# EAGLE library part LARA-R2 (library Modules)
u-blox LTE Cat 1 module
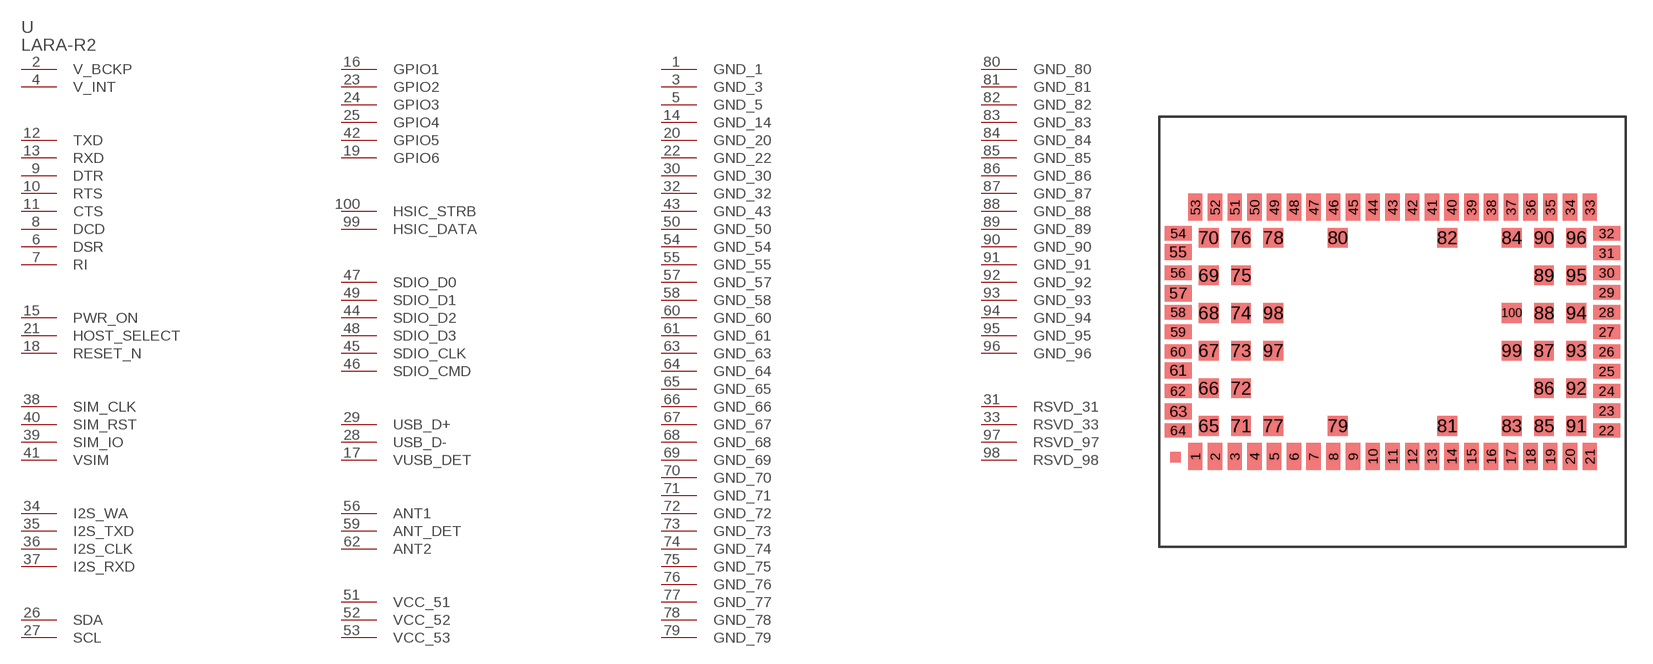
[diagram p2: symbol with the pads of LARA-R2; footprint LARA-R2]

Designator prefix U

## LARA-R220  [LARA-R2]
1  GND_1  pas
2  V_BCKP
3  GND_3  pas
4  V_INT
5  GND_5  pas
6  DSR
7  RI
8  DCD
9  DTR
10  RTS
11  CTS
12  TXD
13  RXD
14  GND_14  pas
15  PWR_ON
16  GPIO1
17  VUSB_DET
18  RESET_N
19  GPIO6
20  GND_20  pas
21  HOST_SELECT
22  GND_22  pas
23  GPIO2
24  GPIO3
25  GPIO4
26  SDA
27  SCL
28  USB_D-
29  USB_D+
30  GND_30  pas
31  RSVD_31  nc
32  GND_32  pas
33  RSVD_33  nc
34  I2S_WA
35  I2S_TXD
36  I2S_CLK
37  I2S_RXD
38  SIM_CLK
39  SIM_IO
40  SIM_RST
41  VSIM  pas
42  GPIO5
43  GND_43  pas
44  SDIO_D2  pas
45  SDIO_CLK  pas
46  SDIO_CMD  pas
47  SDIO_D0  pas
48  SDIO_D3  pas
49  SDIO_D1  pas
50  GND_50  pas
51  VCC_51  pas
52  VCC_52  pas
53  VCC_53  pas
54  GND_54  pas
55  GND_55  pas
56  ANT1
57  GND_57  pas
58  GND_58  pas
59  ANT_DET
60  GND_60  pas
61  GND_61  pas
62  ANT2
63  GND_63  pas
64  GND_64  pas
65  GND_65  pas
66  GND_66  pas
67  GND_67  pas
68  GND_68  pas
69  GND_69  pas
70  GND_70  pas
71  GND_71  pas
72  GND_72  pas
73  GND_73  pas
74  GND_74  pas
75  GND_75  pas
76  GND_76  pas
77  GND_77  pas
78  GND_78  pas
79  GND_79  pas
80  GND_80  pas
81  GND_81  pas
82  GND_82  pas
83  GND_83  pas
84  GND_84  pas
85  GND_85  pas
86  GND_86  pas
87  GND_87  pas
88  GND_88  pas
89  GND_89  pas
90  GND_90  pas
91  GND_91  pas
92  GND_92  pas
93  GND_93  pas
94  GND_94  pas
95  GND_95  pas
96  GND_96  pas
97  RSVD_97  nc
98  RSVD_98  nc
99  HSIC_DATA
100  HSIC_STRB

## Footprint LARA-R2 (pad centres in mm)
LARA-R2 series Size-optimized LTE Cat 1 modules
smd 0.8 x 1.5: 1 -11,-6.95; 2 -9.9,-6.95; 3 -8.8,-6.95; 4 -7.7,-6.95; 5 -6.6,-6.95; 6 -5.5,-6.95; 7 -4.4,-6.95; 8 -3.3,-6.95; 9 -2.2,-6.95; 10 -1.1,-6.95; 11 0,-6.95; 12 1.1,-6.95; 13 2.2,-6.95; 14 3.3,-6.95; 15 4.4,-6.95; 16 5.5,-6.95; 17 6.6,-6.95; 18 7.7,-6.95; 19 8.8,-6.95; 20 9.9,-6.95; 21 11,-6.95; 33 11,6.95; 34 9.9,6.95; 35 8.8,6.95; 36 7.7,6.95; 37 6.6,6.95; 38 5.5,6.95; 39 4.4,6.95; 40 3.3,6.95; 41 2.2,6.95; 42 1.1,6.95; 43 0,6.95; 44 -1.1,6.95; 45 -2.2,6.95; 46 -3.3,6.95; 47 -4.4,6.95; 48 -5.5,6.95; 49 -6.6,6.95; 50 -7.7,6.95; 51 -8.8,6.95; 52 -9.9,6.95; 53 -11,6.95
smd 1.5 x 0.8: 22 11.95,-5.5; 23 11.95,-4.4; 24 11.95,-3.3; 25 11.95,-2.2; 26 11.95,-1.1; 27 11.95,0; 28 11.95,1.1; 29 11.95,2.2; 30 11.95,3.3; 31 11.95,4.4; 32 11.95,5.5; 54 -11.95,5.5; 56 -11.95,3.3; 58 -11.95,1.1; 59 -11.95,0; 60 -11.95,-1.1; 62 -11.95,-3.3; 64 -11.95,-5.5
smd 1.5 x 0.9: 55 -11.95,4.45; 57 -11.95,2.15; 61 -11.95,-2.15; 63 -11.95,-4.45
smd 1.1 x 1.1: 65 -10.25,-5.25; 66 -10.25,-3.15; 67 -10.25,-1.05; 68 -10.25,1.05; 69 -10.25,3.15; 70 -10.25,5.25; 71 -8.45,-5.25; 72 -8.45,-3.15; 73 -8.45,-1.05; 74 -8.45,1.05; 75 -8.45,3.15; 76 -8.45,5.25; 77 -6.65,-5.25; 78 -6.65,5.25; 79 -3.05,-5.25; 80 -3.05,5.25; 81 3.05,-5.25; 82 3.05,5.25; 83 6.65,-5.25; 84 6.65,5.25; 85 8.45,-5.25; 86 8.45,-3.15; 87 8.45,-1.05; 88 8.45,1.05; 89 8.45,3.15; 90 8.45,5.25; 91 10.25,-5.25; 92 10.25,-3.15; 93 10.25,-1.05; 94 10.25,1.05; 95 10.25,3.15; 96 10.25,5.25; 97 -6.65,-1.05; 98 -6.65,1.05; 99 6.65,-1.05; 100 6.65,1.05